# Altium schematic symbol library Resistor.SchLib: 93 symbols (part 2 of 2)
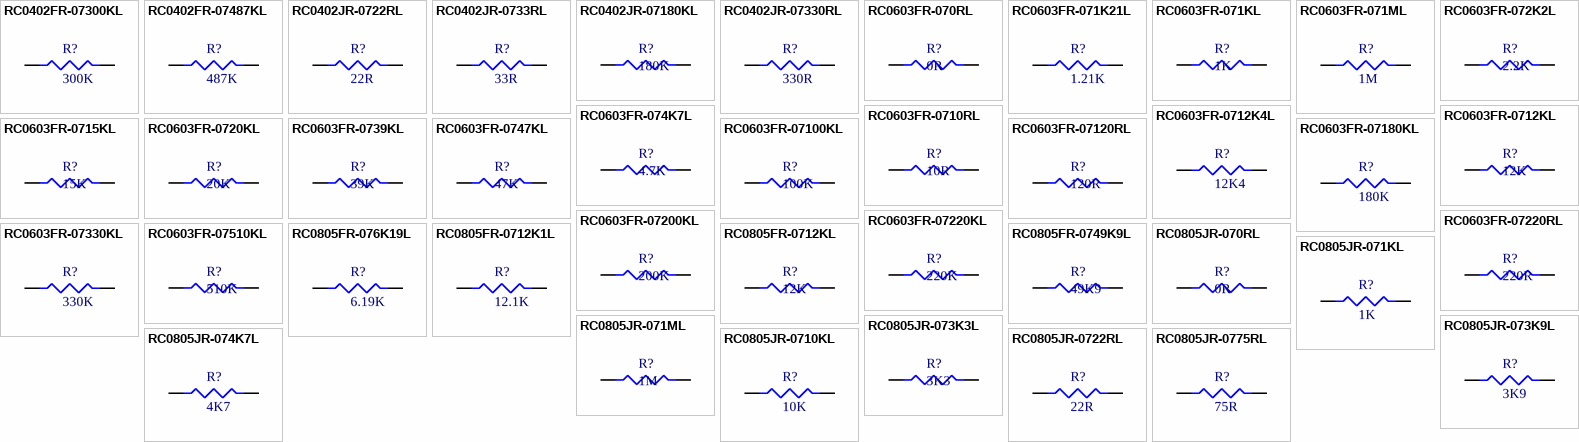
[diagram p3: symbols RC0402FR-07300KL to RC0805JR-0775RL]

## RC0805JR-071KL
designator R?, comment 1K
1K, %5, 1/8W, 0805; Manufacturer: YAGEO; Manufacturer Part Number: RC0805JR-071KL; Value: 1000; Tolerance: 5%; Power Rating: 125mW; Voltage Rating: 150V; Temperature Coefficient: 100ppm/°C; Purpose Of Usage: BASIC; Supplier 1: Digi-Key; Supplier Part Number 1: 311-1.0KARCT-ND; RoHS: YES; Case/Package: 0805; Case Code (Imperial): 0805; Min Operating Temperature: -55°C; Max Operating Temperature: 155°C; Category: RESISTOR; Sub-Category: CHIP RESISTOR; Stock ID: ??; Mount: SMD; Max Power Dissipation: 125mW; Price 10K: 0.0025; Local Supplier: GENERAL
footprint R0805
pins: 1, 2

## RC0805JR-071ML
designator R?, comment 1M
1M, %5, 1/8W, 0805; Manufacturer: YAGEO; Manufacturer Part Number: RC0805JR-071ML; Value: 1000000; Power Rating: 125mW; Tolerance: 5%; Voltage Rating: 150V; Temperature Coefficient: 100ppm/°C; Purpose Of Usage: BASIC; Supplier 1: Digi-Key; RoHS: YES; Case/Package: 0805; Case Code (Imperial): 0805; Min Operating Temperature: -55°C; Max Operating Temperature: 155°C; Max Power Dissipation: 125mW; Supplier Part Number 1: 311-1.0MARCT-ND; Category: RESISTOR; Sub-Category: CHIP RESISTOR; Stock ID: ??; Mount: SMD; Price 10K: 0.0025; Local Supplier: GENERAL
footprint R0805
pins: 1, 2

## RC0805JR-073K3L
designator R?, comment 3K3
3.3K, %5, 1/8W, 0805; Manufacturer: YAGEO; Manufacturer Part Number: RC0805JR-073K3L; Value: 3300; Tolerance: 5%; Power Rating: 125mW; Voltage Rating: 150V; Temperature Coefficient: 100ppm/°C; Purpose Of Usage: BASIC; Supplier 1: Digi-Key; RoHS: YES; Case/Package: 0805; Case Code (Imperial): 0805; Min Operating Temperature: -55°C; Max Operating Temperature: 155°C; Supplier Part Number 1: 311-3.3KARCT-ND; Category: RESISTOR; Sub-Category: CHIP RESISTOR; Stock ID: ??; Mount: SMD; Max Power Dissipation: 125mW; Price 10K: 0.0025; Local Supplier: GENERAL
footprint R0805
pins: 1, 2

## RC0805JR-073K9L
designator R?, comment 3K9
3.9K, %5, 1/8W, 0805; Manufacturer: YAGEO; Manufacturer Part Number: RC0805JR-073K9L; Value: 3900; Tolerance: 5%; Power Rating: 125mW; Voltage Rating: 150V; Temperature Coefficient: 100ppm/°C; Purpose Of Usage: BASIC; Supplier 1: Digi-Key; Supplier Part Number 1: 311-3.9KARCT-ND; RoHS: YES; Case/Package: 0805; Case Code (Imperial): 0805; Min Operating Temperature: -55°C; Max Operating Temperature: 155°C; Max Power Dissipation: 125mW; Category: RESISTOR; Sub-Category: CHIP RESISTOR; Stock ID: ??; Mount: SMD; Price 10K: 0.0025; Local Supplier: GENERAL
footprint R0805
pins: 1, 2

## RC0805JR-074K7L
designator R?, comment 4K7
4.7K, %5, 1/8W, 0805; Manufacturer: YAGEO; Manufacturer Part Number: RC0805JR-074K7L; Value: 4700; Tolerance: 5%; Temperature Coefficient: 100ppm/°C; Power Rating: 125mW; Voltage Rating: 150V; Purpose Of Usage: BASIC; Supplier 1: Digi-Key; Supplier Part Number 1: 311-4.7KARDKR-ND; RoHS: YES; Case/Package: 0805; Case Code (Imperial): 0805; Min Operating Temperature: -55°C; Max Operating Temperature: 155°C; Category: RESISTOR; Sub-Category: CHIP RESISTOR; Stock ID: ??; Mount: SMD; Max Power Dissipation: 125mW; Price 10K: 0.0025; Local Supplier: GENERAL
footprint R0805
pins: 1, 2

## RC0805JR-0710KL
designator R?, comment 10K
10K, %5, 1/8W, 0805; Manufacturer: YAGEO; Manufacturer Part Number: RC0805JR-0710KL; Tolerance: 5%; Value: 10000; Power Rating: 125mW; Voltage Rating: 150V; Temperature Coefficient: 100ppm/°C; Purpose Of Usage: BASIC; Supplier 1: Digi-Key; Supplier Part Number 1: 311-10KARCT-ND; RoHS: YES; Case/Package: 0805; Case Code (Imperial): 0805; Min Operating Temperature: -55°C; Max Operating Temperature: 155°C; Category: RESISTOR; Sub-Category: CHIP RESISTOR; Stock ID: ??; Mount: SMD; Max Power Dissipation: 125mW; Price 10K: 0.0025; Local Supplier: GENERAL
footprint R0805
pins: 1, 2

## RC0805JR-0722RL
designator R?, comment 22R
22R, %5, 1/8W, 0805; Manufacturer: YAGEO; Manufacturer Part Number: RC0805JR-0722RL; Tolerance: 5%; Value: 22; Power Rating: 125mW; Voltage Rating: 150V; Temperature Coefficient: 100ppm/°C; Purpose Of Usage: BASIC; Supplier 1: Digi-Key; Supplier Part Number 1: 311-22ARCT-ND; RoHS: YES; Case/Package: 0805; Case Code (Imperial): 0805; Min Operating Temperature: -55°C; Max Operating Temperature: 155°C; Category: RESISTOR; Sub-Category: CHIP RESISTOR; Stock ID: ??; Mount: SMD; Max Power Dissipation: 125mW; Price 10K: 0.0025; Local Supplier: GENERAL
footprint R0805
pins: 1, 2

## RC0805JR-0775RL
designator R?, comment 75R
75R, %5, 1/8W, 0805; Manufacturer: YAGEO; Manufacturer Part Number: RC0805JR-0775RL; Value: 75; Tolerance: 5%; Power Rating: 125mW; Voltage Rating: 150V; Temperature Coefficient: 100ppm/°C; Purpose Of Usage: BASIC; Supplier 1: Digi-Key; Supplier Part Number 1: 311-75ARCT-ND; RoHS: YES; Case/Package: 0805; Case Code (Imperial): 0805; Min Operating Temperature: -55°C; Max Operating Temperature: 155°C; Voltage Rating (DC): 150V; Category: RESISTOR; Sub-Category: CHIP RESISTOR; Stock ID: ??; Mount: SMD; Max Power Dissipation: 125mW; Price 10K: 0.0025; Local Supplier: GENERAL
footprint R0805
pins: 1, 2

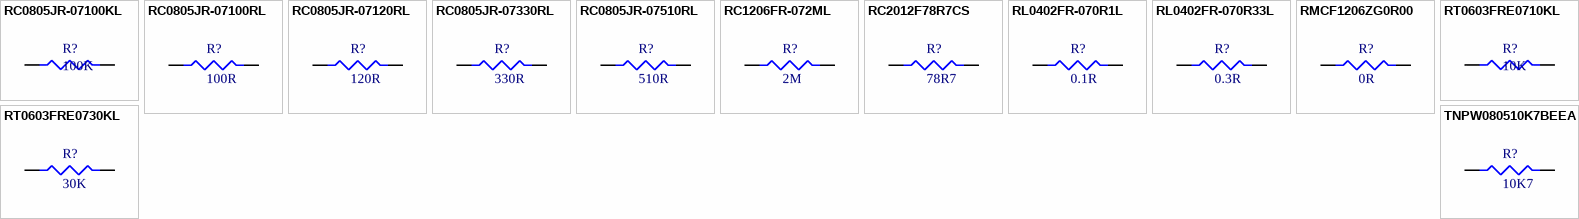
[diagram p2: symbols RC0805JR-07100KL to TNPW080510K7BEEA]

## RC0805JR-07100KL
designator R?, comment 100K
100K, %5, 1/8W, 0805; Manufacturer: YAGEO; Manufacturer Part Number: RC0805JR-07100KL; Value: 100000; Tolerance: 5%; Temperature Coefficient: 100ppm/°C; Power Rating: 125mW; Voltage Rating: 150V; Purpose Of Usage: BASIC; Supplier 1: Digi-Key; RoHS: YES; Case/Package: 0805; Case Code (Imperial): 0805; Min Operating Temperature: -55°C; Max Operating Temperature: 155°C; Category: RESISTOR; Supplier Part Number 1: 311-100KARCT-ND; Sub-Category: CHIP RESISTOR; Stock ID: ??; Mount: SMD; Max Power Dissipation: 125mW; Price 10K: 0.0025; Local Supplier: GENERAL
footprint R0805
pins: 1, 2

## RC0805JR-07100RL
designator R?, comment 100R
100R, %5, 1/8W, 0805; Manufacturer: YAGEO; Manufacturer Part Number: RC0805JR-07100RL; Tolerance: 5%; Value: 100; Power Rating: 125mW; Voltage Rating: 150V; Temperature Coefficient: 100ppm/°C; Purpose Of Usage: BASIC; Supplier 1: Digi-Key; Supplier Part Number 1: 311-100ARCT-ND; RoHS: YES; Case/Package: 0805; Case Code (Imperial): 0805; Min Operating Temperature: -55°C; Max Operating Temperature: 155°C; Category: RESISTOR; Sub-Category: CHIP RESISTOR; Stock ID: ??; Mount: SMD; Max Power Dissipation: 125mW; Price 10K: 0.0025; Local Supplier: GENERAL
footprint R0805
pins: 1, 2

## RC0805JR-07120RL
designator R?, comment 120R
120R, %5, 1/8W, 0805; Manufacturer: YAGEO; Manufacturer Part Number: RC0805JR-07120RL; Value: 120; Power Rating: 125mW; Tolerance: 5%; Voltage Rating: 150V; Temperature Coefficient: 100ppm/°C; Purpose Of Usage: BASIC; Supplier 1: Digi-Key; Supplier Part Number 1: 311-120ARCT-ND; RoHS: YES; Case/Package: 0805; Case Code (Imperial): 0805; Min Operating Temperature: -55°C; Max Operating Temperature: 155°C; Max Power Dissipation: 125mW; Category: RESISTOR; Sub-Category: CHIP RESISTOR; Stock ID: ??; Mount: SMD; Price 10K: 0.0025; Local Supplier: GENERAL
footprint R0805
pins: 1, 2

## RC0805JR-07330RL
designator R?, comment 330R
330R, %5, 1/8W, 0805; Manufacturer: YAGEO; Manufacturer Part Number: RC0805JR-07330RL; Tolerance: 5%; Value: 330; Power Rating: 125mW; Voltage Rating: 150V; Temperature Coefficient: 100ppm/°C; Purpose Of Usage: BASIC; Supplier 1: Digi-Key; Supplier Part Number 1: 311-330ARCT-ND; RoHS: YES; Case/Package: 0805; Case Code (Imperial): 0805; Min Operating Temperature: -55°C; Max Operating Temperature: 155°C; Category: RESISTOR; Sub-Category: CHIP RESISTOR; Stock ID: ??; Mount: SMD; Max Power Dissipation: 125mW; Price 10K: 0.0025; Local Supplier: GENERAL
footprint R0805
pins: 1, 2

## RC0805JR-07510RL
designator R?, comment 510R
510R, %5, 1/8W, 0805; Manufacturer: YAGEO; Manufacturer Part Number: RC0805JR-07510RL; Value: 510; Tolerance: 5%; Power Rating: 125mW; Voltage Rating: 150V; Temperature Coefficient: 100ppm/°C; Voltage Rating (DC): 300V; Purpose Of Usage: BASIC; Supplier 1: Digi-Key; Supplier Part Number 1: 311-510ARCT-ND; RoHS: YES; Case/Package: 0805; Case Code (Imperial): 0805; Min Operating Temperature: -55°C; Max Operating Temperature: 155°C; Max Power Dissipation: 125mW; Working Voltage: 150V; Category: RESISTOR; Sub-Category: CHIP RESISTOR; Stock ID: ??; Mount: SMD; Price 10K: 0.0025; Local Supplier: GENERAL
footprint R0805
pins: 1, 2

## RC1206FR-072ML
designator R?, comment 2M
2M, %1, 1/4W, 1206; Manufacturer: YAGEO; Manufacturer Part Number: RC1206FR-072ML; Value: 2000000; Tolerance: 1%; Power Rating: 250mW; Voltage Rating: 200V; Temperature Coefficient: 100ppm/°C; Purpose Of Usage: BASIC; Supplier 1: Digi-Key; Supplier Part Number 1: 311-2.00MFRCT-ND; RoHS: YES; Mount: SMD; Case/Package: 1206; Case Code (Imperial): 1206; Min Operating Temperature: -55°C; Max Operating Temperature: 155°C; Max Power Dissipation: 250mW; Voltage Rating (DC): 200V; Category: RESISTOR; Sub-Category: CHIP RESISTOR; Stock ID: ??; Price 10K: 0.0025; Local Supplier: GENERAL
footprint R1206
pins: 1, 2

## RC2012F78R7CS
designator R?, comment 78R7
78.7R, %1, 1/8W, 0805; Manufacturer: SAMSUNG; Manufacturer Part Number: RC2012F78R7CS; Value: 78.7; Tolerance: 1%; Power Rating: 125mW; Temperature Coefficient: 100ppm/°C; Voltage Rating (DC): 150V; Purpose Of Usage: BASIC; Supplier 1: Digi-Key; Supplier Part Number 1: 1276-5218-1-ND; RoHS: YES; Case/Package: 0805; Case Code (Imperial): 0805; Min Operating Temperature: -55°C; Max Operating Temperature: 155°C; Max Power Dissipation: 125mW; Category: RESISTOR; Sub-Category: CHIP RESISTOR; Stock ID: ??; Mount: SMD; Price 10K: 0.0025; Local Supplier: GENERAL
footprint R0805
pins: 1, 2

## RL0402FR-070R1L
designator R?, comment 0.1R
0.1R, %1, 1/16W, 0402; Manufacturer: YAGEO; Manufacturer Part Number: RL0402FR-070R1L; Value: 0.1; Tolerance: 1%; Power Rating: 63mW; Voltage Rating: 100V; Temperature Coefficient: 800ppm/°C; Purpose Of Usage: BASIC; Supplier 1: Digi-Key; RoHS: YES; Category: RESISTOR; Case/Package: 0402; Case Code (Imperial): 0402; Min Operating Temperature: -55°C; Max Operating Temperature: 125°C; Max Power Dissipation: 63mW; Supplier Part Number 1: 311-.10PCT-ND; Local Supplier: GENERAL; Mount: SMD; Price 10K: 0.0025; Stock ID: ??; Sub-Category: CHIP RESISTOR
footprint R0402 (Chip Resistor, 2-Leads, Body 1.00x0.50mm, IPC Medium Density)
pins: 1, 2

## RL0402FR-070R33L
designator R?, comment 0.3R
0.33R, %1, 1/16W, 0402; Manufacturer: YAGEO; Manufacturer Part Number: RL0402FR-070R33L; Voltage Rating (DC): 100V; Value: 0.33; Power Rating: 63mW; Tolerance: 1%; Temperature Coefficient: 800ppm/°C; Purpose Of Usage: BASIC; Supplier 1: Digi-Key; RoHS: YES; Category: RESISTOR; Case/Package: 0402; Case Code (Imperial): 0402; Min Operating Temperature: -55°C; Max Operating Temperature: 125°C; Voltage Rating: 100V; Max Power Dissipation: 63mW; Supplier Part Number 1: 311-.33PTR-ND; Mount: SMD; Price 10K: 0.044; Stock ID: ??; Sub-Category: CHIP RESISTOR; Local Supplier: GENERAL
footprint R0402 (Chip Resistor, 2-Leads, Body 1.00x0.50mm, IPC Medium Density)
pins: 1, 2

## RMCF1206ZG0R00
designator R?, comment 0R
0R, %5, 1/4W, 1206; Manufacturer: STACKPOLE; Manufacturer Part Number: RMCF1206ZG0R00; Value: 0; Max Power Dissipation: 250mW; Purpose Of Usage: BASIC; Supplier 1: Digi-Key; Supplier Part Number 1: RMCF1206ZG0R00CT-ND; RoHS: YES; Mount: SMD; Case/Package: 1206; Case Code (Imperial): 1206; Min Operating Temperature: -55°C; Max Operating Temperature: 155°C; Category: RESISTOR; Sub-Category: CHIP RESISTOR; Stock ID: ??; Power Rating: 250mW; Price 10K: 0.0025; Local Supplier: GENERAL
footprint R1206
pins: 1, 2

## RT0603FRE0710KL
designator R?, comment 10K
10K, %1, 1/10W, 0603; Manufacturer: YAGEO; Manufacturer Part Number: RT0603FRE0710KL; Value: 10000; Tolerance: 1%; Power Rating: 100mW; Voltage Rating: 75V; Temperature Coefficient: 50ppm/°C; Purpose Of Usage: BASIC; Supplier 1: Digi-Key; Supplier Part Number 1: YAG2321CT-ND; RoHS: YES; Case/Package: 0603; Case Code (Imperial): 0603; Min Operating Temperature: -55°C; Max Operating Temperature: 125°C; Max Power Dissipation: 100mW; Voltage Rating (DC): 75V; Category: RESISTOR; Supplier 2: JLCPCB; Supplier Part Number 2: C25804; Sub-Category: CHIP RESISTOR; Stock ID: ??; Mount: SMD; Price 10K: 0.0025; Local Supplier: GENERAL
footprint R0603
pins: 1, 2

## RT0603FRE0730KL
designator R?, comment 30K
30K, %1, 1/10W, 0603; Manufacturer: YAGEO; Manufacturer Part Number: RT0603FRE0730KL; Value: 30000; Tolerance: 1%; Power Rating: 100mW; Voltage Rating: 75V; Temperature Coefficient: 50ppm/°C; Voltage Rating (DC): 50V; Purpose Of Usage: BASIC; Supplier 1: Digi-Key; RoHS: YES; Case/Package: 0603; Case Code (Imperial): 0603; Min Operating Temperature: -55°C; Max Operating Temperature: 125°C; Max Power Dissipation: 100mW; Supplier Part Number 1: 13-RT0603FRE0730KLCT-ND; Category: RESISTOR; Sub-Category: CHIP RESISTOR; Stock ID: ??; Mount: SMD; Price 10K: 0.0025; Local Supplier: GENERAL
footprint R0603
pins: 1, 2

## TNPW080510K7BEEA
designator R?, comment 10K7
10.7K, %0.1, 1/8W, 0805; Manufacturer: VISHAY; Manufacturer Part Number: TNPW080510K7BEEA; Tolerance: 0.1%; Value: 10700; Power Rating: 125mW; Voltage Rating: 150V; Temperature Coefficient: 25ppm/°C; Voltage Rating (DC): 75V; Purpose Of Usage: BASIC; Supplier 1: Digi-Key; Supplier Part Number 1: 541-3728-1-ND; RoHS: YES; Case/Package: 0805; Case Code (Imperial): 0805; Min Operating Temperature: -55°C; Max Operating Temperature: 125°C; Max Power Dissipation: 125mW; Category: RESISTOR; Sub-Category: CHIP RESISTOR; Stock ID: ??; Mount: SMD; Price 10K: 0.0025; Local Supplier: GENERAL
footprint R0805 (Chip Resistor, 2-Leads, Body 2.00x1.25mm, IPC Medium Density)
pins: 1, 2